# Altium schematic symbol library LTC1143.SchLib: 1 symbol
Pins are listed as number, name and electrical type; pins without a type are passive.

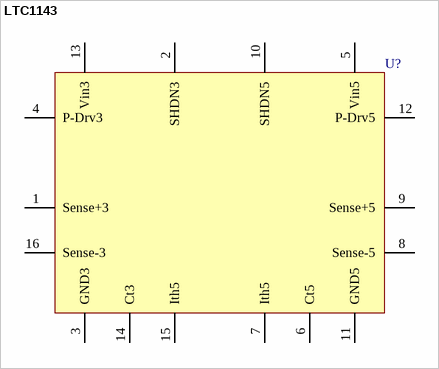
[diagram p0: symbol LTC1143]

## LTC1143
designator U?  (value not drawn)
IC, Switching Regulator
pins: 1 Sense+3, 2 SHDN3, 3 GND3, 4 P-Drv3, 5 Vin5, 6 Ct5, 7 Ith5, 8 Sense-5, 9 Sense+5, 10 SHDN5, 11 GND5, 12 P-Drv5, 13 Vin3, 14 Ct3, 15 Ith5, 16 Sense-3